# EAGLE library part MIC2179 (library diode-20CJQ030)
Micrel's MIC2179 1.5A synchronous buck regulator General Description: The Micrel MIC2179 is a 200kHz synchronous buck (stepdown) switching regulator designed for high-efficiency, batterypowered applications. The MIC2179 operates from a 4.5V to 16.5V input and features internal power MOSFETs that can supply up to 1.5A output current. It can operate with a maximum duty cycle of 100% for use in low-dropout conditions. It also features a shutdown mode that reduces quiescent current to less than 5µA. The MIC2179 achieves high efficiency over a wide output current range by operating in either PWM or skip mode. The operating mode is externally selected, typically by an intelligent system, which chooses the appropriate mode according to operating conditions, efficiency, and noise requirements. The switching frequency is preset to 200kHz and can be synchronized to an external clock signal of up to 300kHz. The MIC2179 uses current-mode control with internal current sensing. Current-mode control provides superior line regulation and makes the regulator control loop easy to compensate. The output is protected with pulse-by-pulse current limiting and thermal shutdown. Undervoltage lockout turns the output off when the input voltage is less than 4.5V. The MIC2179 and is packaged in a 20-lead SSOP package with an operating temperature range of -40°C to +85°C. Features: 4.5V to 16.5V input voltage range Dual-mode operation for high efficiency (up to 96%) PWM mode for > 150mA load current Skip mode for <150mA load current 150mOhm internal power MOSFETs at 12V input 200kHz preset switching frequency Low quiescent current 1.0mA in PWM mode 600?A in skip mode < 5µA in shutdown mode Current-mode control Simplified loop compensation Superior line regulation 100% duty cycle for low dropout operation Current limit Thermal shutdown Undervoltage lockout Applications: High-efficiency, battery-powered supplies Buck (step-down) dc-to-dc converters Cellular telephones Laptop computers Hand-held instruments Battery Charger Please send any comments to: messi@users.sourceforge.net
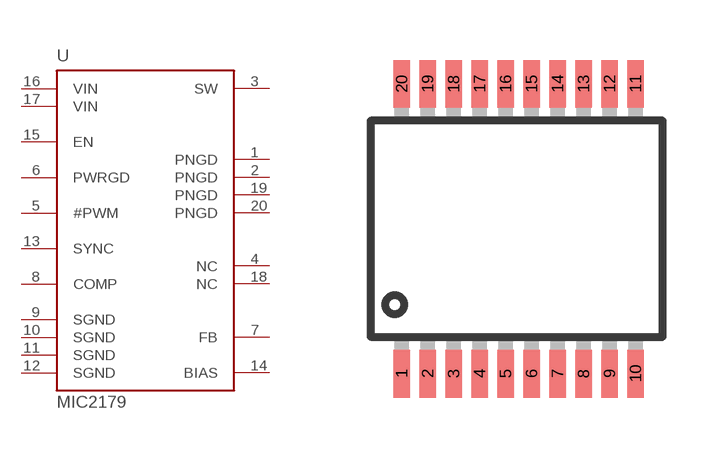
[diagram p53: symbol with the pads of SSOP20W; footprint SSOP20W]

Designator prefix U

## MIC2179SSOP20W  [SSOP20W]
1  PNGD  pwr
2  PNGD  pwr
3  SW  out
4  NC  nc
5  #PWM
6  PWRGD  out
7  FB
8  COMP  out
9  SGND  pwr
10  SGND  pwr
11  SGND  pwr
12  SGND  pwr
13  SYNC  in
14  BIAS
15  EN  in
16  VIN  pwr
17  VIN  pwr
18  NC  nc
19  PNGD  pwr
20  PNGD  pwr

## Footprint SSOP20W (pad centres in mm)
smd 0.42 x 1.2: 1 -2.925,-3.625; 2 -2.275,-3.625; 3 -1.625,-3.625; 4 -0.975,-3.625; 5 -0.325,-3.625; 6 0.325,-3.625; 7 0.975,-3.625; 8 1.625,-3.625; 9 2.275,-3.625; 10 2.925,-3.625; 11 2.925,3.625; 12 2.275,3.625; 13 1.625,3.625; 14 0.975,3.625; 15 0.325,3.625; 16 -0.325,3.625; 17 -0.975,3.625; 18 -1.625,3.625; 19 -2.275,3.625; 20 -2.925,3.625